# Altium footprint library surface.PcbLib: 50 footprints (part 3 of 4)
Each footprint in its own frame and in the unit in brackets; x right, y up, seen from the top. Pads: shape width x height; smd on the part's side, far side on the other; paste and mask are expansions set on the pad; w line width, h text height; cw(c..) or ccw(c..) is an arc to the next point about the centre after c.
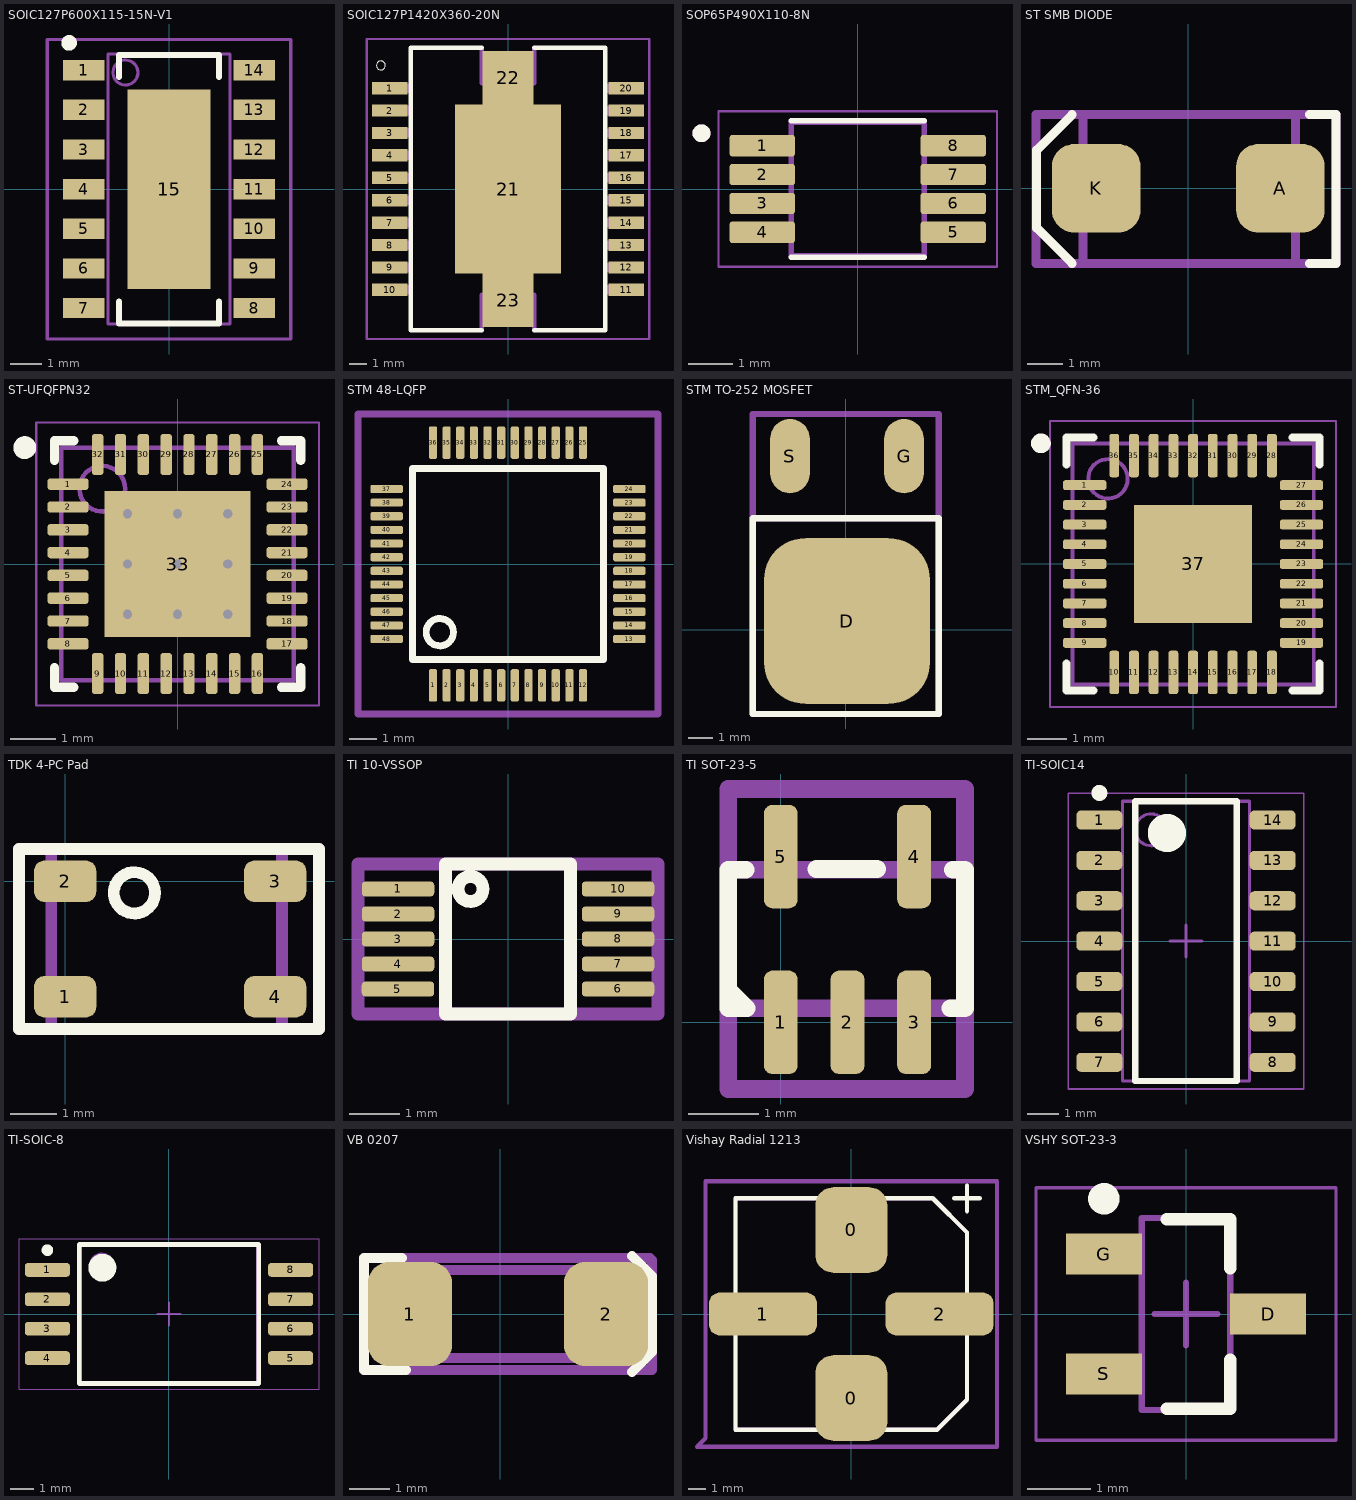
[diagram p2: the footprints below, top view; thin cyan lines are the x and y axes]

## SOIC127P600X115-15N-V1 [mm] "SOIC,1.27mm,pitch;14 pin,3.90mm W X 8.65mm L X 1.15mm H body (w/thermal tab)"
height 1.15
pads (15):
  rect 1.34x0.65 smd paste+0 mask+0: 1(-2.73,3.81) 2(-2.73,2.54) 3(-2.73,1.27) 4(-2.73,0) 5(-2.73,-1.27) 6(-2.73,-2.54) 7(-2.73,-3.81) 8(2.73,-3.81) 9(2.73,-2.54) 10(2.73,-1.27) 11(2.73,0) 12(2.73,1.27) 13(2.73,2.54) 14(2.73,3.81)
  rect 2.65x6.4 smd paste-1.325 mask+0: 15(0,0)
Top Overlay:
  circle w0.25: c-3.2,4.685 r0.125
  lines w0.2: -1.6,-3.6 -1.6,-4.3 1.6,-4.3 1.6,-3.6 ; -1.6,3.6 -1.6,4.3 1.6,4.3 1.6,3.6
Top Paste:
  rectangle: -1.225,0.15 1.225,3.1
  rectangle: -1.225,-3.1 1.225,-0.15
Mechanical 3:
  text ".DESIGNATOR" at 0,0 h1.2
Mechanical 13:
  circle w0.1: c-1.395,3.735 r0.4
  lines w0.1: -1.95,-4.325 -1.95,4.325 1.95,4.325 1.95,-4.325 -1.95,-4.325
Mechanical 15:
  lines w0.1: -0.5,0 0.5,0 ; 0,-0.5 0,0.5 ; -3.9,-4.8 -3.9,4.8 3.9,4.8 3.9,-4.8 -3.9,-4.8
3D body "PG-TDSO-14-11.stp": height 1.16, standoff 0, extent -3,-4.325 3,4.325

## SOIC127P1420X360-20N [mm]
pads (23):
  rect 2x0.7 smd: 1(-6.7,5.715) 2(-6.7,4.445) 3(-6.7,3.175) 4(-6.7,1.905) 5(-6.7,0.635) 6(-6.7,-0.635) 7(-6.7,-1.905) 8(-6.7,-3.175) 9(-6.7,-4.445) 10(-6.7,-5.715) 11(6.7,-5.715) 12(6.7,-4.445) 13(6.7,-3.175) 14(6.7,-1.905) 15(6.7,-0.635) 16(6.7,0.635) 17(6.7,1.905) 18(6.7,3.175) 19(6.7,4.445) 20(6.7,5.715)
  rect 6x9.6 smd paste-6: 21(0,0)
  rect 2.9x3.05 smd paste-3: 22(0,6.3) 23(0,-6.3)
Top Overlay:
  circle w0: c-7.2,7 r0.254
  lines w0.254: -1.5,-8 -5.5,-8 -5.5,8 -1.5,8 ; 1.5,-8 5.5,-8 5.5,8 1.5,8
Top Paste:
  region: 1.9,-3.001 -1.901,-3.001 -1.901,3 1.9,3
Mechanical 13:
  circle w0.127: c0,5 r0.671
  circle w0.127: c0,-5 r0.671
  region: -5.466,5.46 -7.036,5.46 -7.036,5.974 -5.466,5.974
  region: -5.465,4.19 -7.037,4.19 -7.037,4.703 -5.465,4.703
  region: -5.464,2.92 -7.037,2.92 -7.037,3.432 -5.464,3.432
  region: -5.469,1.646 -7.041,1.646 -7.041,2.167 -5.469,2.167
  region: -5.467,0.375 -7.042,0.375 -7.042,0.895 -5.467,0.895
  region: -5.465,-0.896 -7.043,-0.896 -7.043,-0.377 -5.465,-0.377
  region: -5.464,-2.167 -7.043,-2.167 -7.043,-1.648 -5.464,-1.648
  region: -5.462,-3.431 -7.038,-3.431 -7.038,-2.92 -5.462,-2.92
  region: -5.462,-4.708 -7.045,-4.708 -7.045,-4.19 -5.462,-4.19
  region: -5.461,-5.977 -7.044,-5.977 -7.044,-5.461 -5.461,-5.461
  region: 7.091,-5.969 5.512,-5.969 5.512,-5.466 7.091,-5.466
  region: 7.097,-4.698 5.513,-4.698 5.513,-4.201 7.097,-4.201
  region: 7.089,-3.429 5.512,-3.429 5.512,-2.923 7.089,-2.923
  region: 7.091,-2.157 5.513,-2.157 5.513,-1.655 7.091,-1.655
  region: 7.091,-0.886 5.515,-0.886 5.515,-0.386 7.091,-0.386
  region: 7.088,0.382 5.513,0.382 5.513,0.888 7.088,0.888
  region: 7.088,1.653 5.514,1.653 5.514,2.157 7.088,2.157
  region: 7.087,2.923 5.514,2.923 5.514,3.428 7.087,3.428
  region: 7.087,4.192 5.513,4.192 5.513,4.699 7.087,4.699
  region: 7.087,5.466 5.517,5.466 5.517,5.969 7.087,5.969
  lines w0.254: -1.5,-8 -1.5,-6 1.5,-6 1.5,-8 ; -1.5,8 -1.5,6 1.5,6 1.5,8
Mechanical 15:
  lines w0.127: -8,-8.5 -8,8.5 8,8.5 8,-8.5 -8,-8.5
3D body "step_temp.STEP": height 3.6, standoff 0, extent -7.95,-7.1 7.95,7.1

## SOP65P490X110-8N [mm]
pads (8):
  rrect25% 1.47x0.48 smd: 1(-2.15,0.975) 2(-2.15,0.325) 3(-2.15,-0.325) 4(-2.15,-0.975) 5(2.15,-0.975) 6(2.15,-0.325) 7(2.15,0.325) 8(2.15,0.975)
Top Overlay:
  circle w0.2: c-3.52,1.255 r0.1
  lines w0.127: -1.5,-1.535 1.5,-1.535 ; -1.5,1.535 1.5,1.535
Mechanical 13:
  circle w0.2: c-3.52,1.255 r0.1
  lines w0.127: -1.5,-1.5 1.5,-1.5 1.5,1.5 -1.5,1.5 -1.5,-1.5
Mechanical 15:
  lines w0.05: -3.135,-1.75 3.135,-1.75 3.135,1.75 -3.135,1.75 -3.135,-1.75

## ST SMB DIODE [mm]
pads (2):
  rrect50% 2.5x2.5 smd: A(2.6,0) K(-2.6,0)
Top Overlay:
  lines w0.254: -4.28,-0.72 -4.28,0.98 ; -3.28,-2.12 -4.28,-1.12 -4.28,1.08 -3.28,2.08 ; 3.42,-2.12 4.17,-2.12 4.17,2.08 3.42,2.08
Mechanical 13:
  lines w0.254: -2.98,-2.12 3.02,-2.12 3.02,2.08 -2.98,2.08 -2.98,-2.12
Mechanical 15:
  lines w0.254: -4.3,-2.12 4.17,-2.12 4.17,2.08 -4.3,2.08 -4.3,-2.12
3D body "SMB.STEP": height 2.5, standoff 0, extent -2.875,-1.99 2.715,1.95

## ST-UFQFPN32 [mm]
pads (33):
  rrect50% 0.9x0.25 smd: 1(-2.4,1.75) 2(-2.4,1.25) 3(-2.4,0.75) 4(-2.4,0.25) 5(-2.4,-0.25) 6(-2.4,-0.75) 7(-2.4,-1.25) 8(-2.4,-1.75) 17(2.4,-1.75) 18(2.4,-1.25) 19(2.4,-0.75) 20(2.4,-0.25) 21(2.4,0.25) 22(2.4,0.75) 23(2.4,1.25) 24(2.4,1.75)
  rrect50% 0.25x0.9 smd: 9(-1.75,-2.4) 10(-1.25,-2.4) 11(-0.75,-2.4) 12(-0.25,-2.4) 13(0.25,-2.4) 14(0.75,-2.4) 15(1.25,-2.4) 16(1.75,-2.4) 25(1.75,2.4) 26(1.25,2.4) 27(0.75,2.4) 28(0.25,2.4) 29(-0.25,2.4) 30(-0.75,2.4) 31(-1.25,2.4) 32(-1.75,2.4)
  rect 3.2x3.2 smd: 33(0,0)
via -1.1,1.1 diameter 0.5 hole 0.2
via 0,1.1 diameter 0.5 hole 0.2
via 1.1,1.1 diameter 0.5 hole 0.2
via -1.1,0 diameter 0.5 hole 0.2
via 0,0 diameter 0.5 hole 0.2
via 1.1,0 diameter 0.5 hole 0.2
via -1.1,-1.1 diameter 0.5 hole 0.2
via 0,-1.1 diameter 0.5 hole 0.2
via 1.1,-1.1 diameter 0.5 hole 0.2
Top Overlay:
  circle w0.25: c-3.35,2.55 r0.125
  lines w0.2: -2.7,-2.275 -2.7,-2.7 -2.275,-2.7 ; -2.7,2.275 -2.7,2.7 -2.275,2.7 ; 2.275,-2.7 2.7,-2.7 2.7,-2.275 ; 2.275,2.7 2.7,2.7 2.7,2.275
Mechanical 13:
  circle w0.1: c-1.65,1.65 r0.5
  lines w0.1: -2.55,-2.55 -2.55,2.55 2.55,2.55 2.55,-2.55 -2.55,-2.55
Mechanical 15:
  lines w0.05: -3.1,-3.1 -3.1,3.1 3.1,3.1 3.1,-3.1 -3.1,-3.1
  lines w0.1: -0.5,0 0.5,0 ; 0,-0.5 0,0.5
3D body "ST-UFQFPN32.step": height 0.6, standoff 0, extent -2.6,-2.6 2.6,2.6

## STM 48-LQFP [mm]
pads (48):
  rrect50% 0.3x1.2 smd mask+0.05: 1(-2.75,-4.45) 2(-2.25,-4.45) 3(-1.75,-4.45) 4(-1.25,-4.45) 5(-0.75,-4.45) 6(-0.25,-4.45) 7(0.25,-4.45) 8(0.75,-4.45) 9(1.25,-4.45) 10(1.75,-4.45) 11(2.25,-4.45) 12(2.75,-4.45) 25(2.75,4.45) 26(2.25,4.45) 27(1.75,4.45) 28(1.25,4.45) 29(0.75,4.45) 30(0.25,4.45) 31(-0.25,4.45) 32(-0.75,4.45) 33(-1.25,4.45) 34(-1.75,4.45) 35(-2.25,4.45) 36(-2.75,4.45)
  rrect50% 1.2x0.3 smd mask+0.05: 13(4.45,-2.75) 14(4.45,-2.25) 15(4.45,-1.75) 16(4.45,-1.25) 17(4.45,-0.75) 18(4.45,-0.25) 19(4.45,0.25) 20(4.45,0.75) 21(4.45,1.25) 22(4.45,1.75) 23(4.45,2.25) 24(4.45,2.75) 37(-4.45,2.75) 38(-4.45,2.25) 39(-4.45,1.75) 40(-4.45,1.25) 41(-4.45,0.75) 42(-4.45,0.25) 43(-4.45,-0.25) 44(-4.45,-0.75) 45(-4.45,-1.25) 46(-4.45,-1.75) 47(-4.45,-2.25) 48(-4.45,-2.75)
Top Overlay:
  circle w0.254: c-2.5,-2.5 r0.5
  lines w0.254: -3.5,-3.5 -3.5,3.5 3.5,3.5 3.5,-3.5 -3.5,-3.5
Mechanical 13:
  lines w0.254: -3.5,-3.5 3.5,-3.5 3.5,3.5 -3.5,3.5 -3.5,-3.5
Mechanical 15:
  lines w0.254: -5.5,-5.5 5.5,-5.5 5.5,5.5 -5.5,5.5 -5.5,-5.5
3D body "LQFP-48-L.step": height 1.6, standoff 0, extent -4.597,-4.597 4.597,4.597

## STM TO-252 MOSFET [mm]
pads (3):
  rrect50% 6.7x6.7 smd: D(0.05,0.35)
  oval 1.6x3 smd: G(2.35,7) S(-2.25,7)
Top Overlay:
  lines w0.254: -3.75,-3.4 3.75,-3.4 3.75,4.5 -3.75,4.5 -3.75,-3.4
Mechanical 13:
  lines w0.254: -3.75,-3.4 3.75,-3.4 3.75,4.5 -3.75,4.5 -3.75,-3.4
Mechanical 15:
  lines w0.254: -3.75,-3.4 3.75,-3.4 3.75,8.7 -3.75,8.7 -3.75,-3.4
3D body "TO-252AA-IRF.stp": height 2.39, standoff 0, extent -3.326,-2.667 3.386,7.747

## STM_QFN-36 [mm]
height 1
pads (37):
  rrect50% 1.1x0.25 smd: 1(-2.75,2) 2(-2.75,1.5) 3(-2.75,1) 4(-2.75,0.5) 5(-2.75,0) 6(-2.75,-0.5) 7(-2.75,-1) 8(-2.75,-1.5) 9(-2.75,-2) 19(2.75,-2) 20(2.75,-1.5) 21(2.75,-1) 22(2.75,-0.5) 23(2.75,0) 24(2.75,0.5) 25(2.75,1) 26(2.75,1.5) 27(2.75,2)
  rrect50% 0.25x1.1 smd: 10(-2,-2.75) 11(-1.5,-2.75) 12(-1,-2.75) 13(-0.5,-2.75) 14(0,-2.75) 15(0.5,-2.75) 16(1,-2.75) 17(1.5,-2.75) 18(2,-2.75) 28(2,2.75) 29(1.5,2.75) 30(1,2.75) 31(0.5,2.75) 32(0,2.75) 33(-0.5,2.75) 34(-1,2.75) 35(-1.5,2.75) 36(-2,2.75)
  rect 3x3 smd: 37(0,0)
Top Overlay:
  circle w0.25: c-3.86,3.06 r0.125
  lines w0.2: -3.21,-2.525 -3.21,-3.21 -2.525,-3.21 ; -3.21,2.525 -3.21,3.21 -2.525,3.21 ; 2.525,-3.21 3.21,-3.21 3.21,-2.525 ; 2.525,3.21 3.21,3.21 3.21,2.525
Mechanical 13:
  circle w0.1: c-2.16,2.16 r0.5
  lines w0.1: -3.06,-3.06 -3.06,3.06 3.06,3.06 3.06,-3.06 -3.06,-3.06
Mechanical 15:
  lines w0.05: -3.625,-3.625 -3.625,3.625 3.625,3.625 3.625,-3.625 -3.625,-3.625
  lines w0.1: -0.5,0 0.5,0 ; 0,-0.5 0,0.5
3D body "QFN-38.step": height 1, standoff 0, extent -3.08,-3.08 3.08,3.08

## TDK 4-PC Pad [mm]
pads (4):
  rrect50% 1.35x0.9 smd: 1(0,-2.5) 2(0,0) 3(4.55,0) 4(4.55,-2.5)
Top Overlay:
  circle w0.254: c1.5,-0.25 r0.447
  lines w0.254: -1,-3.2 5.5,-3.2 5.5,0.7 -1,0.7 -1,-3.2
Mechanical 13:
  lines w0.254: -0.3,-3.2 4.7,-3.2 4.7,0.7 -0.3,0.7 -0.3,-3.2
Mechanical 15:
  lines w0.254: -1,-3.2 5.5,-3.2 5.5,0.7 -1,0.7 -1,-3.2
3D body "act45b.step": height 2.8, standoff 0, extent -0.023,-2.822 4.477,0.378

## TI 10-VSSOP [mm]
pads (10):
  rrect50% 1.45x0.3 smd mask+0.05: 1(-2.2,1) 2(-2.2,0.5) 3(-2.2,0) 4(-2.2,-0.5) 5(-2.2,-1) 6(2.2,-1) 7(2.2,-0.5) 8(2.2,0) 9(2.2,0.5) 10(2.2,1)
Top Overlay:
  circle w0.254: c-0.75,1 r0.25
  lines w0.254: -1.25,-1.5 1.25,-1.5 1.25,1.5 -1.25,1.5 -1.25,-1.5
Mechanical 13:
  lines w0.254: -1.25,-1.5 1.25,-1.5 1.25,1.5 -1.25,1.5 -1.25,-1.5
Mechanical 15:
  lines w0.254: -3,-1.5 -3,1.5 3,1.5 3,-1.5 -3,-1.5
3D body "ADS1115IDGSR--3DModel-STEP-56544.STEP": height 1.12, standoff 0.02, extent -2.45,-1.5 2.45,1.5

## TI SOT-23-5 [mil]
pads (5):
  rrect50% 19x58 smd: 1(0,0) 2(37.4,0) 3(74.8,0) 4(74.8,93) 5(0,93)
Top Overlay:
  lines w10: -29,17.75 -19.13,7.87 -29.53,7.87 -29.53,85.63 -19.63,85.63 ; 20,86 54,86 ; 95.13,7.87 103.35,7.87 103.35,85.63 96.63,85.63
Mechanical 13:
  lines w10: -29.53,-37.4 103.35,-37.4 103.35,130.91 -29.53,130.91 -29.53,-37.4
Mechanical 15:
  lines w10: -29.53,7.87 -29.53,85.63 103.35,85.63 103.35,7.87 -29.53,7.87
3D body "DBV5.step": height 57.09, standoff 0, extent -22.6,-11.76 97.4,106.27

## TI-SOIC14 [mm]
pads (14):
  rrect50% 1.45x0.6 smd: 1(-2.725,3.81) 2(-2.725,2.54) 3(-2.725,1.27) 4(-2.725,0) 5(-2.725,-1.27) 6(-2.725,-2.54) 7(-2.725,-3.81) 8(2.725,-3.81) 9(2.725,-2.54) 10(2.725,-1.27) 11(2.725,0) 12(2.725,1.27) 13(2.725,2.54) 14(2.725,3.81)
Top Overlay:
  circle w0.6: c-0.6,3.4 r0.3
  circle w0.25: c-2.725,4.66 r0.125
  lines w0.2: -1.6,-4.4 1.6,-4.4 1.6,4.4 -1.6,4.4 -1.6,-4.4
Mechanical 13:
  circle w0.1: c-1.1,3.5 r0.5
  lines w0.1: -2,-4.4 2,-4.4 2,4.4 -2,4.4 -2,-4.4
Mechanical 15:
  lines w0.05: -3.7,-4.65 3.7,-4.65 3.7,4.65 -3.7,4.65 -3.7,-4.65
  lines w0.1: -0.5,0 0.5,0 ; 0,-0.5 0,0.5
3D body "TI-SOIC14.step": height 1.75, standoff 0, extent -3,-4.4 3,4.4

## TI-SOIC-8 [mm]
height 2.8
pads (8):
  rrect50% 1.95x0.6 smd: 1(-5.25,1.905) 2(-5.25,0.635) 3(-5.25,-0.635) 4(-5.25,-1.905) 5(5.25,-1.905) 6(5.25,-0.635) 7(5.25,0.635) 8(5.25,1.905)
Top Overlay:
  circle w0.25: c-5.25,2.755 r0.125
  circle w0.6: c-2.875,2 r0.3
  lines w0.2: -3.875,-3 -3.875,3 3.875,3 3.875,-3 -3.875,-3
Mechanical 13:
  circle w0.1: c-2.9,2.1 r0.5
  lines w0.1: -3.8,-3 -3.8,3 3.8,3 3.8,-3 -3.8,-3
Mechanical 15:
  lines w0.05: -6.475,-3.25 -6.475,3.25 6.475,3.25 6.475,-3.25 -6.475,-3.25
  lines w0.1: -0.5,0 0.5,0 ; 0,-0.5 0,0.5
3D body "TI-SOIC-8.step": height 2.8, standoff 0, extent -5.75,-3 5.75,3

## VB 0207 [mm]
pads (2):
  rrect50% 2.1x2.6 smd: 1(-2.25,0) 2(2.65,0)
Top Overlay:
  lines w0.254: -2.45,1.4 -3.4,1.4 -3.4,-1.4 -2.35,-1.4 ; 3.3,-1.45 3.8,-0.95 3.8,0.95 3.3,1.45
Mechanical 13:
  lines w0.254: -2.7,-1.1 -2.7,1.1 3.1,1.1 3.1,-1.1 -2.7,-1.1
Mechanical 15:
  lines w0.254: -3.4,-1.4 3.8,-1.4 3.8,1.35 3.75,1.4 -3.4,1.4 -3.4,0.8 -3.4,-1.4
3D body "RESMELF-0207.stp": height 2.19, standoff 0, extent -2.7,-1.098 3.1,1.098

## Vishay Radial 1213 [mm]
pads (4):
  rrect50% 4.2x5 smd: 0(0,-4.9) 0(0,4.9)
  rrect50% 6.3x2.5 smd: 1(-5.15,0) 2(5.15,0)
Top Overlay:
  lines w0.254: 6,6.75 7.5,6.75 ; 6.75,6 6.75,7.5 ; -6.75,-6.75 5,-6.75 6.75,-5 6.75,3 6.75,4.75 4.75,6.75 -6.75,6.75 -6.75,-6.75
Mechanical 13:
  lines w0.254: -6.75,-6.75 -6.75,6.75 4.75,6.75 6.75,4.75 6.75,-5 5,-6.75 -6.75,-6.75
Mechanical 15:
  lines w0.254: -9,-7.75 -8.5,-7.25 -8.5,7.75 8.5,7.75 8.5,-7.75 -9,-7.75
3D body "vishay 1213.STEP": height 14.31, standoff 0, extent -7.45,-6.45 7.45,6.45

## VSHY SOT-23-3 [mm] "SOT23, 3-Leads, Body 2.92x2.37mm, Pitch 0.95mm, IPC Low Density"
height 1.12
pads (3):
  rect 1.2x0.65 smd: D(1.3,0) G(-1.3,0.95) S(-1.3,-0.95)
Top Overlay:
  circle w0.25: c-1.3,1.825 r0.125
  lines w0.2: -0.3,-1.5 0.7,-1.5 0.7,-0.725 ; -0.3,1.5 0.7,1.5 0.7,0.725
Mechanical 13:
  lines w0.1: -0.7,-1.52 -0.7,1.52 0.7,1.52 0.7,-1.52 -0.7,-1.52
Mechanical 15:
  lines w0.05: -2.375,-2 -2.375,2 2.375,2 2.375,-2 -2.375,-2
  lines w0.1: -0.5,0 0.5,0 ; 0,-0.5 0,0.5
3D body "VSHY SOT-23-3.step": height 1.12, standoff 0, extent -1.32,-1.52 1.32,1.52